# Altium schematic symbol library Converter_DCDC.SchLib: 658 symbols (part 5 of 7)
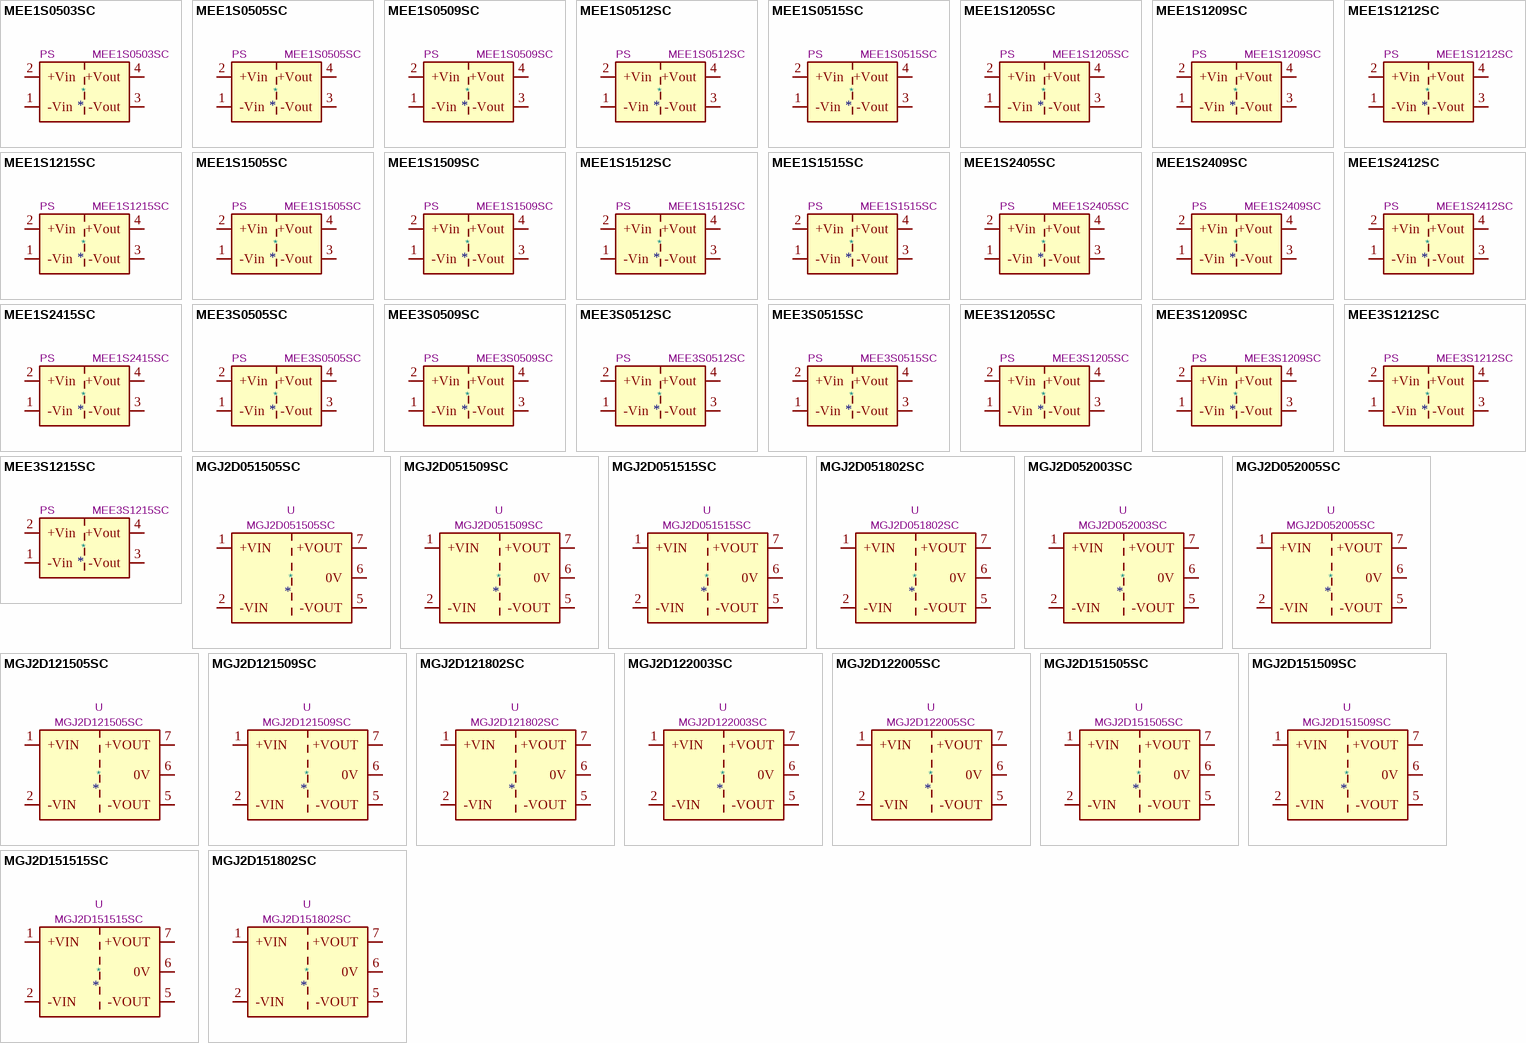
[diagram p20: symbols MEE1S0503SC to MGJ2D151802SC]

## MGJ2D121509SC
designator *  value MGJ2D121509SC  Reference: U
ki_keywords: DC/DC converter; ki_description: 5.2kVDC Isolated 2W Gate Drive, 12V Vin, +15V/-8.7V Vout; ki_fp_filters: Converter*DCDC*Murata*MGJ2DxxxxxxSC*; Footprint: Converter_DCDC:Converter_DCDC_Murata_MGJ2DxxxxxxSC_THT; Datasheet: https://power.murata.com/pub/data/power/ncl/kdc_mgj2.pdf
pins: 1 +VIN, 2 -VIN, 5 -VOUT, 6 0V, 7 +VOUT

## MGJ2D121802SC
designator *  value MGJ2D121802SC  Reference: U
ki_keywords: DC/DC converter; ki_description: 5.2kVDC Isolated 2W Gate Drive, 12V Vin, +18V/-2.5V Vout; ki_fp_filters: Converter*DCDC*Murata*MGJ2DxxxxxxSC*; Footprint: Converter_DCDC:Converter_DCDC_Murata_MGJ2DxxxxxxSC_THT; Datasheet: https://power.murata.com/pub/data/power/ncl/kdc_mgj2.pdf
pins: 1 +VIN, 2 -VIN, 5 -VOUT, 6 0V, 7 +VOUT

## MGJ2D122003SC
designator *  value MGJ2D122003SC  Reference: U
ki_keywords: DC/DC converter; ki_description: 5.2kVDC Isolated 2W Gate Drive, 12V Vin, +18V/-3.5V Vout; ki_fp_filters: Converter*DCDC*Murata*MGJ2DxxxxxxSC*; Footprint: Converter_DCDC:Converter_DCDC_Murata_MGJ2DxxxxxxSC_THT; Datasheet: https://power.murata.com/pub/data/power/ncl/kdc_mgj2.pdf
pins: 1 +VIN, 2 -VIN, 5 -VOUT, 6 0V, 7 +VOUT

## MGJ2D122005SC
designator *  value MGJ2D122005SC  Reference: U
ki_keywords: DC/DC converter; ki_description: 5.2kVDC Isolated 2W Gate Drive, 12V Vin, +20V/-5V Vout; ki_fp_filters: Converter*DCDC*Murata*MGJ2DxxxxxxSC*; Footprint: Converter_DCDC:Converter_DCDC_Murata_MGJ2DxxxxxxSC_THT; Datasheet: https://power.murata.com/pub/data/power/ncl/kdc_mgj2.pdf
pins: 1 +VIN, 2 -VIN, 5 -VOUT, 6 0V, 7 +VOUT

## MGJ2D151505SC
designator *  value MGJ2D151505SC  Reference: U
ki_keywords: DC/DC converter; ki_description: 5.2kVDC Isolated 2W Gate Drive, 15V Vin, +15V/-5V Vout; ki_fp_filters: Converter*DCDC*Murata*MGJ2DxxxxxxSC*; Footprint: Converter_DCDC:Converter_DCDC_Murata_MGJ2DxxxxxxSC_THT; Datasheet: https://power.murata.com/pub/data/power/ncl/kdc_mgj2.pdf
pins: 1 +VIN, 2 -VIN, 5 -VOUT, 6 0V, 7 +VOUT

## MGJ2D151509SC
designator *  value MGJ2D151509SC  Reference: U
ki_keywords: DC/DC converter; ki_description: 5.2kVDC Isolated 2W Gate Drive, 15V Vin, +15V/-8.7V Vout; ki_fp_filters: Converter*DCDC*Murata*MGJ2DxxxxxxSC*; Footprint: Converter_DCDC:Converter_DCDC_Murata_MGJ2DxxxxxxSC_THT; Datasheet: https://power.murata.com/pub/data/power/ncl/kdc_mgj2.pdf
pins: 1 +VIN, 2 -VIN, 5 -VOUT, 6 0V, 7 +VOUT

## MGJ2D151515SC
designator *  value MGJ2D151515SC  Reference: U
ki_keywords: DC/DC converter; ki_description: 5.2kVDC Isolated 2W Gate Drive, 15V Vin, +15V/-15V Vout; ki_fp_filters: Converter*DCDC*Murata*MGJ2DxxxxxxSC*; Footprint: Converter_DCDC:Converter_DCDC_Murata_MGJ2DxxxxxxSC_THT; Datasheet: https://power.murata.com/pub/data/power/ncl/kdc_mgj2.pdf
pins: 1 +VIN, 2 -VIN, 5 -VOUT, 6 0V, 7 +VOUT

## MGJ2D151802SC
designator *  value MGJ2D151802SC  Reference: U
ki_keywords: DC/DC converter; ki_description: 5.2kVDC Isolated 2W Gate Drive, 15V Vin, +18V/-2.5V Vout; ki_fp_filters: Converter*DCDC*Murata*MGJ2DxxxxxxSC*; Footprint: Converter_DCDC:Converter_DCDC_Murata_MGJ2DxxxxxxSC_THT; Datasheet: https://power.murata.com/pub/data/power/ncl/kdc_mgj2.pdf
pins: 1 +VIN, 2 -VIN, 5 -VOUT, 6 0V, 7 +VOUT

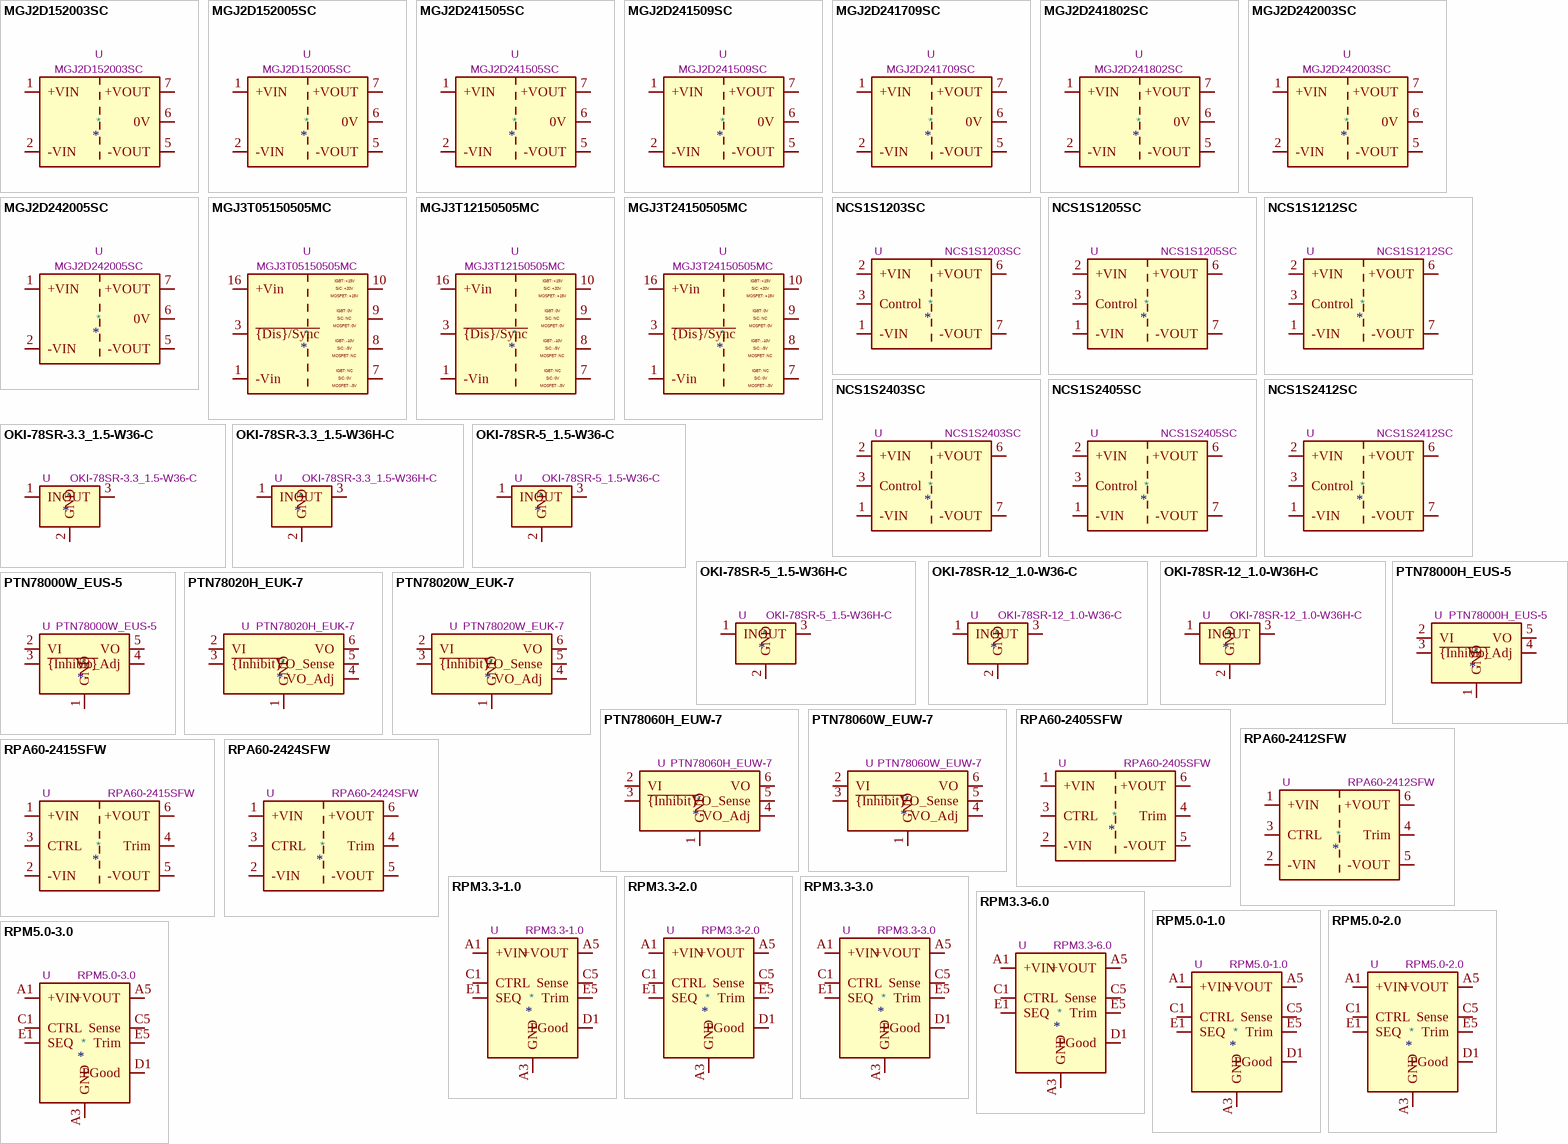
[diagram p11: symbols MGJ2D152003SC to RPM5.0-3.0]

## MGJ2D152003SC
designator *  value MGJ2D152003SC  Reference: U
ki_keywords: DC/DC converter; ki_description: 5.2kVDC Isolated 2W Gate Drive, 15V Vin, +20V/-3.5V Vout; ki_fp_filters: Converter*DCDC*Murata*MGJ2DxxxxxxSC*; Footprint: Converter_DCDC:Converter_DCDC_Murata_MGJ2DxxxxxxSC_THT; Datasheet: https://power.murata.com/pub/data/power/ncl/kdc_mgj2.pdf
pins: 1 +VIN, 2 -VIN, 5 -VOUT, 6 0V, 7 +VOUT

## MGJ2D152005SC
designator *  value MGJ2D152005SC  Reference: U
ki_keywords: DC/DC converter; ki_description: 5.2kVDC Isolated 2W Gate Drive, 15V Vin, +20V/-5V Vout; ki_fp_filters: Converter*DCDC*Murata*MGJ2DxxxxxxSC*; Footprint: Converter_DCDC:Converter_DCDC_Murata_MGJ2DxxxxxxSC_THT; Datasheet: https://power.murata.com/pub/data/power/ncl/kdc_mgj2.pdf
pins: 1 +VIN, 2 -VIN, 5 -VOUT, 6 0V, 7 +VOUT

## MGJ2D241505SC
designator *  value MGJ2D241505SC  Reference: U
ki_keywords: DC/DC converter; ki_description: 5.2kVDC Isolated 2W Gate Drive, 24V Vin, +15V/-5V Vout; ki_fp_filters: Converter*DCDC*Murata*MGJ2DxxxxxxSC*; Footprint: Converter_DCDC:Converter_DCDC_Murata_MGJ2DxxxxxxSC_THT; Datasheet: https://power.murata.com/pub/data/power/ncl/kdc_mgj2.pdf
pins: 1 +VIN, 2 -VIN, 5 -VOUT, 6 0V, 7 +VOUT

## MGJ2D241509SC
designator *  value MGJ2D241509SC  Reference: U
ki_keywords: DC/DC converter; ki_description: 5.2kVDC Isolated 2W Gate Drive, 24V Vin, +15V/-8.7V Vout; ki_fp_filters: Converter*DCDC*Murata*MGJ2DxxxxxxSC*; Footprint: Converter_DCDC:Converter_DCDC_Murata_MGJ2DxxxxxxSC_THT; Datasheet: https://power.murata.com/pub/data/power/ncl/kdc_mgj2.pdf
pins: 1 +VIN, 2 -VIN, 5 -VOUT, 6 0V, 7 +VOUT

## MGJ2D241709SC
designator *  value MGJ2D241709SC  Reference: U
ki_keywords: DC/DC converter; ki_description: 5.2kVDC Isolated 2W Gate Drive, 24V Vin, +17V/-9V Vout; ki_fp_filters: Converter*DCDC*Murata*MGJ2DxxxxxxSC*; Footprint: Converter_DCDC:Converter_DCDC_Murata_MGJ2DxxxxxxSC_THT; Datasheet: https://power.murata.com/pub/data/power/ncl/kdc_mgj2.pdf
pins: 1 +VIN, 2 -VIN, 5 -VOUT, 6 0V, 7 +VOUT

## MGJ2D241802SC
designator *  value MGJ2D241802SC  Reference: U
ki_keywords: DC/DC converter; ki_description: 5.2kVDC Isolated 2W Gate Drive, 24V Vin, +18V/-2.5V Vout; ki_fp_filters: Converter*DCDC*Murata*MGJ2DxxxxxxSC*; Footprint: Converter_DCDC:Converter_DCDC_Murata_MGJ2DxxxxxxSC_THT; Datasheet: https://power.murata.com/pub/data/power/ncl/kdc_mgj2.pdf
pins: 1 +VIN, 2 -VIN, 5 -VOUT, 6 0V, 7 +VOUT

## MGJ2D242003SC
designator *  value MGJ2D242003SC  Reference: U
ki_keywords: DC/DC converter; ki_description: 5.2kVDC Isolated 2W Gate Drive, 24V Vin, +20V/-3.5V Vout; ki_fp_filters: Converter*DCDC*Murata*MGJ2DxxxxxxSC*; Footprint: Converter_DCDC:Converter_DCDC_Murata_MGJ2DxxxxxxSC_THT; Datasheet: https://power.murata.com/pub/data/power/ncl/kdc_mgj2.pdf
pins: 1 +VIN, 2 -VIN, 5 -VOUT, 6 0V, 7 +VOUT

## MGJ2D242005SC
designator *  value MGJ2D242005SC  Reference: U
ki_keywords: DC/DC converter; ki_description: 5.2kVDC Isolated 2W Gate Drive, 24V Vin, +20V/-5V Vout; ki_fp_filters: Converter*DCDC*Murata*MGJ2DxxxxxxSC*; Footprint: Converter_DCDC:Converter_DCDC_Murata_MGJ2DxxxxxxSC_THT; Datasheet: https://power.murata.com/pub/data/power/ncl/kdc_mgj2.pdf
pins: 1 +VIN, 2 -VIN, 5 -VOUT, 6 0V, 7 +VOUT

## MGJ3T05150505MC
designator *  value MGJ3T05150505MC  Reference: U
ki_keywords: DC/DC converter; ki_description: 5.2kVDC Isolated 3W Gate Drive, 4.5-9V Vin, +15V/-5V or +15V/-10V or +20V/-5V Vout; ki_fp_filters: Converter*DCDC*Murata*MGJ3*; Footprint: Converter_DCDC:Converter_DCDC_Murata_MGJ3; Datasheet: https://power.murata.com/datasheet?/data/power/ncl/kdc_mgj3.pdf
pins: 1 -Vin, 3 ~{{Dis}/Sync}, 7, 8, 9, 10, 16 +Vin
text: IGBT: +15V; SiC: +20V; MOSFET: +15V; IGBT: 0V; SiC: NC; MOSFET: 0V; IGBT: -10V; SiC: -5V; MOSFET: NC; IGBT: NC; SiC: 0V; MOSFET: -5V

## MGJ3T12150505MC
designator *  value MGJ3T12150505MC  Reference: U
ki_keywords: DC/DC converter; ki_description: 5.2kVDC Isolated 3W Gate Drive, 9-18V Vin, +15V/-5V or +15V/-10V or +20V/-5V Vout; ki_fp_filters: Converter*DCDC*Murata*MGJ3*; Footprint: Converter_DCDC:Converter_DCDC_Murata_MGJ3; Datasheet: https://power.murata.com/datasheet?/data/power/ncl/kdc_mgj3.pdf
pins: 1 -Vin, 3 ~{{Dis}/Sync}, 7, 8, 9, 10, 16 +Vin
text: IGBT: +15V; SiC: +20V; MOSFET: +15V; IGBT: 0V; SiC: NC; MOSFET: 0V; IGBT: -10V; SiC: -5V; MOSFET: NC; IGBT: NC; SiC: 0V; MOSFET: -5V

## MGJ3T24150505MC
designator *  value MGJ3T24150505MC  Reference: U
ki_keywords: DC/DC converter; ki_description: 5.2kVDC Isolated 3W Gate Drive, 18-36V Vin, +15V/-5V or +15V/-10V or +20V/-5V Vout; ki_fp_filters: Converter*DCDC*Murata*MGJ3*; Footprint: Converter_DCDC:Converter_DCDC_Murata_MGJ3; Datasheet: https://power.murata.com/datasheet?/data/power/ncl/kdc_mgj3.pdf
pins: 1 -Vin, 3 ~{{Dis}/Sync}, 7, 8, 9, 10, 16 +Vin
text: IGBT: +15V; SiC: +20V; MOSFET: +15V; IGBT: 0V; SiC: NC; MOSFET: 0V; IGBT: -10V; SiC: -5V; MOSFET: NC; IGBT: NC; SiC: 0V; MOSFET: -5V

## NCS1S1203SC
designator *  value NCS1S1203SC  Reference: U
ki_keywords: Murata isolated isolation dc-dc converter step-down; ki_description: Isolated 1W 4:1 input DC/DC converter module, 4.5-18V input voltage, 3.3V output voltage, SIP; ki_fp_filters: Converter*DCDC*Murata*NCS1SxxxxSC*; Footprint: Converter_DCDC:Converter_DCDC_Murata_NCS1SxxxxSC_THT; Datasheet: https://power.murata.com/data/power/ncl/kdc_ncs1.pdf
pins: 1 -VIN, 2 +VIN, 3 Control, 6 +VOUT, 7 -VOUT

## NCS1S1205SC
designator *  value NCS1S1205SC  Reference: U
ki_keywords: Murata isolated isolation dc-dc converter step-down; ki_description: Isolated 1W 4:1 input DC/DC converter module, 4.5-18V input voltage, 5.0V output voltage, SIP; ki_fp_filters: Converter*DCDC*Murata*NCS1SxxxxSC*; Footprint: Converter_DCDC:Converter_DCDC_Murata_NCS1SxxxxSC_THT; Datasheet: https://power.murata.com/data/power/ncl/kdc_ncs1.pdf
pins: 1 -VIN, 2 +VIN, 3 Control, 6 +VOUT, 7 -VOUT

## NCS1S1212SC
designator *  value NCS1S1212SC  Reference: U
ki_keywords: Murata isolated isolation dc-dc converter step-down; ki_description: Isolated 1W 4:1 input DC/DC converter module, 4.5-18V input voltage, 12.0V output voltage, SIP; ki_fp_filters: Converter*DCDC*Murata*NCS1SxxxxSC*; Footprint: Converter_DCDC:Converter_DCDC_Murata_NCS1SxxxxSC_THT; Datasheet: https://power.murata.com/data/power/ncl/kdc_ncs1.pdf
pins: 1 -VIN, 2 +VIN, 3 Control, 6 +VOUT, 7 -VOUT

## NCS1S2403SC
designator *  value NCS1S2403SC  Reference: U
ki_keywords: Murata isolated isolation dc-dc converter step-down; ki_description: Isolated 1W 4:1 input DC/DC converter module, 9-36V input voltage, 3.3V output voltage, SIP; ki_fp_filters: Converter*DCDC*Murata*NCS1SxxxxSC*; Footprint: Converter_DCDC:Converter_DCDC_Murata_NCS1SxxxxSC_THT; Datasheet: https://power.murata.com/data/power/ncl/kdc_ncs1.pdf
pins: 1 -VIN, 2 +VIN, 3 Control, 6 +VOUT, 7 -VOUT

## NCS1S2405SC
designator *  value NCS1S2405SC  Reference: U
ki_keywords: Murata isolated isolation dc-dc converter step-down; ki_description: Isolated 1W 4:1 input DC/DC converter module, 9-36V input voltage, 5.0V output voltage, SIP; ki_fp_filters: Converter*DCDC*Murata*NCS1SxxxxSC*; Footprint: Converter_DCDC:Converter_DCDC_Murata_NCS1SxxxxSC_THT; Datasheet: https://power.murata.com/data/power/ncl/kdc_ncs1.pdf
pins: 1 -VIN, 2 +VIN, 3 Control, 6 +VOUT, 7 -VOUT

## NCS1S2412SC
designator *  value NCS1S2412SC  Reference: U
ki_keywords: Murata isolated isolation dc-dc converter step-down; ki_description: Isolated 1W 4:1 input DC/DC converter module, 9-36V input voltage, 12.0V output voltage, SIP; ki_fp_filters: Converter*DCDC*Murata*NCS1SxxxxSC*; Footprint: Converter_DCDC:Converter_DCDC_Murata_NCS1SxxxxSC_THT; Datasheet: https://power.murata.com/data/power/ncl/kdc_ncs1.pdf
pins: 1 -VIN, 2 +VIN, 3 Control, 6 +VOUT, 7 -VOUT

## OKI-78SR-3.3_1.5-W36-C
designator *  value OKI-78SR-3.3_1.5-W36-C  Reference: U
ki_keywords: dc-dc murata Step-Down DC/DC-Regulator; ki_description: 1.5A Step-Down DC/DC-Regulator, 7-36V input, 3.3V fixed Output Voltage, LM78xx replacement, -40°C to +85°C, OKI-78SR_Vertical; ki_fp_filters: Converter*DCDC*Murata*OKI*78SR*Vertical*; Footprint: Converter_DCDC:Converter_DCDC_Murata_OKI-78SR_Vertical; Datasheet: https://power.murata.com/data/power/oki-78sr.pdf
pins: 1 IN, 2 GND, 3 OUT

## OKI-78SR-3.3_1.5-W36H-C
designator *  value OKI-78SR-3.3_1.5-W36H-C  Reference: U
ki_keywords: dc-dc murata Step-Down DC/DC-Regulator; ki_description: 1.5A Step-Down DC/DC-Regulator, 7-36V input, 3.3V fixed Output Voltage, LM78xx replacement, -40°C to +85°C, OKI-78SR_Horizontal; ki_fp_filters: Converter*DCDC*Murata*OKI*78SR*Horizontal*; Footprint: Converter_DCDC:Converter_DCDC_Murata_OKI-78SR_Horizontal; Datasheet: https://power.murata.com/data/power/oki-78sr.pdf
pins: 1 IN, 2 GND, 3 OUT

## OKI-78SR-5_1.5-W36-C
designator *  value OKI-78SR-5_1.5-W36-C  Reference: U
ki_keywords: dc-dc murata Step-Down DC/DC-Regulator; ki_description: 1.5A Step-Down DC/DC-Regulator, 7-36V input, 5V fixed Output Voltage, LM78xx replacement, -40°C to +85°C, OKI-78SR_Vertical; ki_fp_filters: Converter*DCDC*Murata*OKI*78SR*Vertical*; Footprint: Converter_DCDC:Converter_DCDC_Murata_OKI-78SR_Vertical; Datasheet: https://power.murata.com/data/power/oki-78sr.pdf
pins: 1 IN, 2 GND, 3 OUT

## OKI-78SR-5_1.5-W36H-C
designator *  value OKI-78SR-5_1.5-W36H-C  Reference: U
ki_keywords: dc-dc murata Step-Down DC/DC-Regulator; ki_description: 1.5A Step-Down DC/DC-Regulator, 7-36V input, 5V fixed Output Voltage, LM78xx replacement, -40°C to +85°C, OKI-78SR_Horizontal; ki_fp_filters: Converter*DCDC*Murata*OKI*78SR*Horizontal*; Footprint: Converter_DCDC:Converter_DCDC_Murata_OKI-78SR_Horizontal; Datasheet: https://power.murata.com/data/power/oki-78sr.pdf
pins: 1 IN, 2 GND, 3 OUT

## OKI-78SR-12_1.0-W36-C
designator *  value OKI-78SR-12_1.0-W36-C  Reference: U
ki_keywords: dc-dc murata Step-Down DC/DC-Regulator; ki_description: 1.0A Step-Down DC/DC-Regulator, 15-36V input, 12V fixed Output Voltage, LM78xx replacement, -40°C to +85°C, OKI-78SR_Vertical; ki_fp_filters: Converter*DCDC*Murata*OKI*78SR*Vertical*; Footprint: Converter_DCDC:Converter_DCDC_Murata_OKI-78SR_Vertical; Datasheet: https://power.murata.com/data/power/oki-78sr.pdf
pins: 1 IN, 2 GND, 3 OUT

## OKI-78SR-12_1.0-W36H-C
designator *  value OKI-78SR-12_1.0-W36H-C  Reference: U
ki_keywords: dc-dc murata Step-Down DC/DC-Regulator; ki_description: 1.0A Step-Down DC/DC-Regulator, 15-36V input, 12V fixed Output Voltage, LM78xx replacement, -40°C to +85°C, OKI-78SR_Horizontal; ki_fp_filters: Converter*DCDC*Murata*OKI*78SR*Horizontal*; Footprint: Converter_DCDC:Converter_DCDC_Murata_OKI-78SR_Horizontal; Datasheet: https://power.murata.com/data/power/oki-78sr.pdf
pins: 1 IN, 2 GND, 3 OUT

## PTN78000H_EUS-5
designator *  value PTN78000H_EUS-5  Reference: U
ki_keywords: texas dc-dc converter step down buck; ki_description: 1.5A non-isolated switching regulator power module, 7-36V input voltage, 11.85-22V output voltage, EUS-5; ki_fp_filters: Texas*EUS*R?PDSS?T5*; Footprint: Module:Texas_EUS_R-PDSS-T5_THT; Datasheet: https://www.ti.com/lit/ds/symlink/ptn78000w.pdf
pins: 1 GND, 2 VI, 3 ~{{Inhibit}}, 4 Vo_Adj, 5 VO

## PTN78000W_EUS-5
designator *  value PTN78000W_EUS-5  Reference: U
ki_keywords: texas dc-dc converter step down buck; ki_description: 1.5A non-isolated switching regulator power module, 7-36V input voltage, 2.5-12.6V output voltage, EUS-5; ki_fp_filters: Texas*EUS*R?PDSS?T5*; Footprint: Module:Texas_EUS_R-PDSS-T5_THT; Datasheet: https://www.ti.com/lit/ds/symlink/ptn78000w.pdf
pins: 1 GND, 2 VI, 3 ~{{Inhibit}}, 4 Vo_Adj, 5 VO

## PTN78020H_EUK-7
designator *  value PTN78020H_EUK-7  Reference: U
ki_keywords: texas dc-dc converter step down buck; ki_description: 6A non-isolated switching regulator power module, 7-36V input voltage, 11.85-22V output voltage, EUK-7; ki_fp_filters: Texas*EUK*R?PDSS?T7*; Footprint: Module:Texas_EUK_R-PDSS-T7_THT; Datasheet: https://www.ti.com/lit/ds/symlink/ptn78020w.pdf
pins: 1 GND, 2 VI, 3 ~{{Inhibit}}, 4 VO_Adj, 5 VO_Sense, 6 VO, 7 GND hidden

## PTN78020W_EUK-7
designator *  value PTN78020W_EUK-7  Reference: U
ki_keywords: texas dc-dc converter step down buck; ki_description: 6A non-isolated switching regulator power module, 7-36V input voltage, 2.5-12.6V output voltage, EUK-7; ki_fp_filters: Texas*EUK*R?PDSS?T7*; Footprint: Module:Texas_EUK_R-PDSS-T7_THT; Datasheet: https://www.ti.com/lit/ds/symlink/ptn78020w.pdf
pins: 1 GND, 2 VI, 3 ~{{Inhibit}}, 4 VO_Adj, 5 VO_Sense, 6 VO, 7 GND hidden

## PTN78060H_EUW-7
designator *  value PTN78060H_EUW-7  Reference: U
ki_keywords: texas dc-dc converter step down buck; ki_description: 3A non-isolated switching regulator power module, 7-36V input voltage, 11.85-22V output voltage, EUW-7; ki_fp_filters: Texas*EUW*R?PDSS?T7*; Footprint: Module:Texas_EUW_R-PDSS-T7_THT; Datasheet: https://www.ti.com/lit/ds/symlink/ptn78060w.pdf
pins: 1 GND, 2 VI, 3 ~{{Inhibit}}, 4 VO_Adj, 5 VO_Sense, 6 VO, 7 GND hidden

## PTN78060W_EUW-7
designator *  value PTN78060W_EUW-7  Reference: U
ki_keywords: texas dc-dc converter step down buck; ki_description: 3A non-isolated switching regulator power module, 7-36V input voltage, 2.5-12.6V output voltage, EUW-7; ki_fp_filters: Texas*EUW*R?PDSS?T7*; Footprint: Module:Texas_EUW_R-PDSS-T7_THT; Datasheet: https://www.ti.com/lit/ds/symlink/ptn78060w.pdf
pins: 1 GND, 2 VI, 3 ~{{Inhibit}}, 4 VO_Adj, 5 VO_Sense, 6 VO, 7 GND hidden

## RPA60-2405SFW
designator *  value RPA60-2405SFW  Reference: U
ki_keywords: isolated isolation dc-dc converter step-down; ki_description: Isolated 60W 4:1 input DC/DC converter module, 9-36V input voltage, 5V output voltage, DIP; ki_fp_filters: Converter*DCDC*RECOM*RPA60?xxxxSFW*; Footprint: Converter_DCDC:Converter_DCDC_RECOM_RPA60-xxxxSFW; Datasheet: https://recom-power.com/pdf/Powerline_DC-DC/RPA60-FW.pdf
pins: 1 +VIN, 2 -VIN, 3 CTRL, 4 Trim, 5 -VOUT, 6 +VOUT

## RPA60-2412SFW
designator *  value RPA60-2412SFW  Reference: U
ki_keywords: isolated isolation dc-dc converter step-down; ki_description: Isolated 60W 4:1 input DC/DC converter module, 9-36V input voltage, 12V output voltage, DIP; ki_fp_filters: Converter*DCDC*RECOM*RPA60?xxxxSFW*; Footprint: Converter_DCDC:Converter_DCDC_RECOM_RPA60-xxxxSFW; Datasheet: https://recom-power.com/pdf/Powerline_DC-DC/RPA60-FW.pdf
pins: 1 +VIN, 2 -VIN, 3 CTRL, 4 Trim, 5 -VOUT, 6 +VOUT

## RPA60-2415SFW
designator *  value RPA60-2415SFW  Reference: U
ki_keywords: isolated isolation dc-dc converter step-down; ki_description: Isolated 60W 4:1 input DC/DC converter module, 9-36V input voltage, 15V output voltage, DIP; ki_fp_filters: Converter*DCDC*RECOM*RPA60?xxxxSFW*; Footprint: Converter_DCDC:Converter_DCDC_RECOM_RPA60-xxxxSFW; Datasheet: https://recom-power.com/pdf/Powerline_DC-DC/RPA60-FW.pdf
pins: 1 +VIN, 2 -VIN, 3 CTRL, 4 Trim, 5 -VOUT, 6 +VOUT

## RPA60-2424SFW
designator *  value RPA60-2424SFW  Reference: U
ki_keywords: isolated isolation dc-dc converter step-down; ki_description: Isolated 60W 4:1 input DC/DC converter module, 9-36V input voltage, 24V output voltage, DIP; ki_fp_filters: Converter*DCDC*RECOM*RPA60?xxxxSFW*; Footprint: Converter_DCDC:Converter_DCDC_RECOM_RPA60-xxxxSFW; Datasheet: https://recom-power.com/pdf/Powerline_DC-DC/RPA60-FW.pdf
pins: 1 +VIN, 2 -VIN, 3 CTRL, 4 Trim, 5 -VOUT, 6 +VOUT

## RPM3.3-1.0
designator *  value RPM3.3-1.0  Reference: U
ki_keywords: Recom dc-dc converter; ki_description: 1A non-isolated switching regulator power module, 3-17V input voltage, 3.3V output voltage, DOSA; ki_fp_filters: Converter*DCDC*RECOM*RPM*; Footprint: Converter_DCDC:Converter_DCDC_RECOM_RPMx.x-x.0; Datasheet: https://www.recom-power.com/pdf/Innoline/RPM-1.0.pdf
pins: A1 +VIN, A2 +VIN hidden, A3 GND, A4 GND hidden, A5 +VOUT, B1 GND hidden, B2 GND hidden, B3 GND hidden, B4 GND hidden, B5 +VOUT hidden, C1 CTRL, C2 GND hidden, C3 GND hidden, C4 GND hidden, C5 Sense, D1 PGood, D2 GND hidden, D3 GND hidden, D4 GND hidden, D5 GND hidden, E1 SEQ, E2 NC hidden, E3 GND hidden, E4 GND hidden, E5 Trim

## RPM3.3-2.0
designator *  value RPM3.3-2.0  Reference: U
ki_keywords: Recom dc-dc converter; ki_description: 2A non-isolated switching regulator power module, 3-17V input voltage, 3.3V output voltage, DOSA; ki_fp_filters: Converter*DCDC*RECOM*RPM*; Footprint: Converter_DCDC:Converter_DCDC_RECOM_RPMx.x-x.0; Datasheet: https://www.recom-power.com/pdf/Innoline/RPM-2.0.pdf
pins: A1 +VIN, A2 +VIN hidden, A3 GND, A4 GND hidden, A5 +VOUT, B1 GND hidden, B2 GND hidden, B3 GND hidden, B4 GND hidden, B5 +VOUT hidden, C1 CTRL, C2 GND hidden, C3 GND hidden, C4 GND hidden, C5 Sense, D1 PGood, D2 GND hidden, D3 GND hidden, D4 GND hidden, D5 GND hidden, E1 SEQ, E2 NC hidden, E3 GND hidden, E4 GND hidden, E5 Trim

## RPM3.3-3.0
designator *  value RPM3.3-3.0  Reference: U
ki_keywords: Recom dc-dc converter; ki_description: 3A non-isolated switching regulator power module, 3-17V input voltage, 3.3V output voltage, DOSA; ki_fp_filters: Converter*DCDC*RECOM*RPM*; Footprint: Converter_DCDC:Converter_DCDC_RECOM_RPMx.x-x.0; Datasheet: https://www.recom-power.com/pdf/Innoline/RPM-3.0.pdf
pins: A1 +VIN, A2 +VIN hidden, A3 GND, A4 GND hidden, A5 +VOUT, B1 GND hidden, B2 GND hidden, B3 GND hidden, B4 GND hidden, B5 +VOUT hidden, C1 CTRL, C2 GND hidden, C3 GND hidden, C4 GND hidden, C5 Sense, D1 PGood, D2 GND hidden, D3 GND hidden, D4 GND hidden, D5 GND hidden, E1 SEQ, E2 NC hidden, E3 GND hidden, E4 GND hidden, E5 Trim

## RPM3.3-6.0
designator *  value RPM3.3-6.0  Reference: U
ki_keywords: Recom dc-dc converter; ki_description: 6A non-isolated switching regulator power module, 4-15V input voltage, 3.3V output voltage, DOSA; ki_fp_filters: Converter*DCDC*RECOM*RPM*; Footprint: Converter_DCDC:Converter_DCDC_RECOM_RPMx.x-x.0; Datasheet: https://www.recom-power.com/pdf/Innoline/RPM-6.0.pdf
pins: A1 +VIN, A2 +VIN hidden, A3 GND, A4 GND hidden, A5 +VOUT, B1 GND hidden, B2 GND hidden, B3 GND hidden, B4 GND hidden, B5 +VOUT hidden, C1 CTRL, C2 GND hidden, C3 GND hidden, C4 GND hidden, C5 Sense, D1 PGood, D2 GND hidden, D3 GND hidden, D4 GND hidden, D5 GND hidden, E1 SEQ, E2 NC hidden, E3 GND hidden, E4 GND hidden, E5 Trim

## RPM5.0-1.0
designator *  value RPM5.0-1.0  Reference: U
ki_keywords: Recom dc-dc converter; ki_description: 1A non-isolated switching regulator power module, 3-17V input voltage, 5.0V output voltage, DOSA; ki_fp_filters: Converter*DCDC*RECOM*RPM*; Footprint: Converter_DCDC:Converter_DCDC_RECOM_RPMx.x-x.0; Datasheet: https://www.recom-power.com/pdf/Innoline/RPM-1.0.pdf
pins: A1 +VIN, A2 +VIN hidden, A3 GND, A4 GND hidden, A5 +VOUT, B1 GND hidden, B2 GND hidden, B3 GND hidden, B4 GND hidden, B5 +VOUT hidden, C1 CTRL, C2 GND hidden, C3 GND hidden, C4 GND hidden, C5 Sense, D1 PGood, D2 GND hidden, D3 GND hidden, D4 GND hidden, D5 GND hidden, E1 SEQ, E2 NC hidden, E3 GND hidden, E4 GND hidden, E5 Trim

## RPM5.0-2.0
designator *  value RPM5.0-2.0  Reference: U
ki_keywords: Recom dc-dc converter; ki_description: 2A non-isolated switching regulator power module, 3-17V input voltage, 5.0V output voltage, DOSA; ki_fp_filters: Converter*DCDC*RECOM*RPM*; Footprint: Converter_DCDC:Converter_DCDC_RECOM_RPMx.x-x.0; Datasheet: https://www.recom-power.com/pdf/Innoline/RPM-2.0.pdf
pins: A1 +VIN, A2 +VIN hidden, A3 GND, A4 GND hidden, A5 +VOUT, B1 GND hidden, B2 GND hidden, B3 GND hidden, B4 GND hidden, B5 +VOUT hidden, C1 CTRL, C2 GND hidden, C3 GND hidden, C4 GND hidden, C5 Sense, D1 PGood, D2 GND hidden, D3 GND hidden, D4 GND hidden, D5 GND hidden, E1 SEQ, E2 NC hidden, E3 GND hidden, E4 GND hidden, E5 Trim

## RPM5.0-3.0
designator *  value RPM5.0-3.0  Reference: U
ki_keywords: Recom dc-dc converter; ki_description: 3A non-isolated switching regulator power module, 3-17V input voltage, 5.0V output voltage, DOSA; ki_fp_filters: Converter*DCDC*RECOM*RPM*; Footprint: Converter_DCDC:Converter_DCDC_RECOM_RPMx.x-x.0; Datasheet: https://www.recom-power.com/pdf/Innoline/RPM-3.0.pdf
pins: A1 +VIN, A2 +VIN hidden, A3 GND, A4 GND hidden, A5 +VOUT, B1 GND hidden, B2 GND hidden, B3 GND hidden, B4 GND hidden, B5 +VOUT hidden, C1 CTRL, C2 GND hidden, C3 GND hidden, C4 GND hidden, C5 Sense, D1 PGood, D2 GND hidden, D3 GND hidden, D4 GND hidden, D5 GND hidden, E1 SEQ, E2 NC hidden, E3 GND hidden, E4 GND hidden, E5 Trim

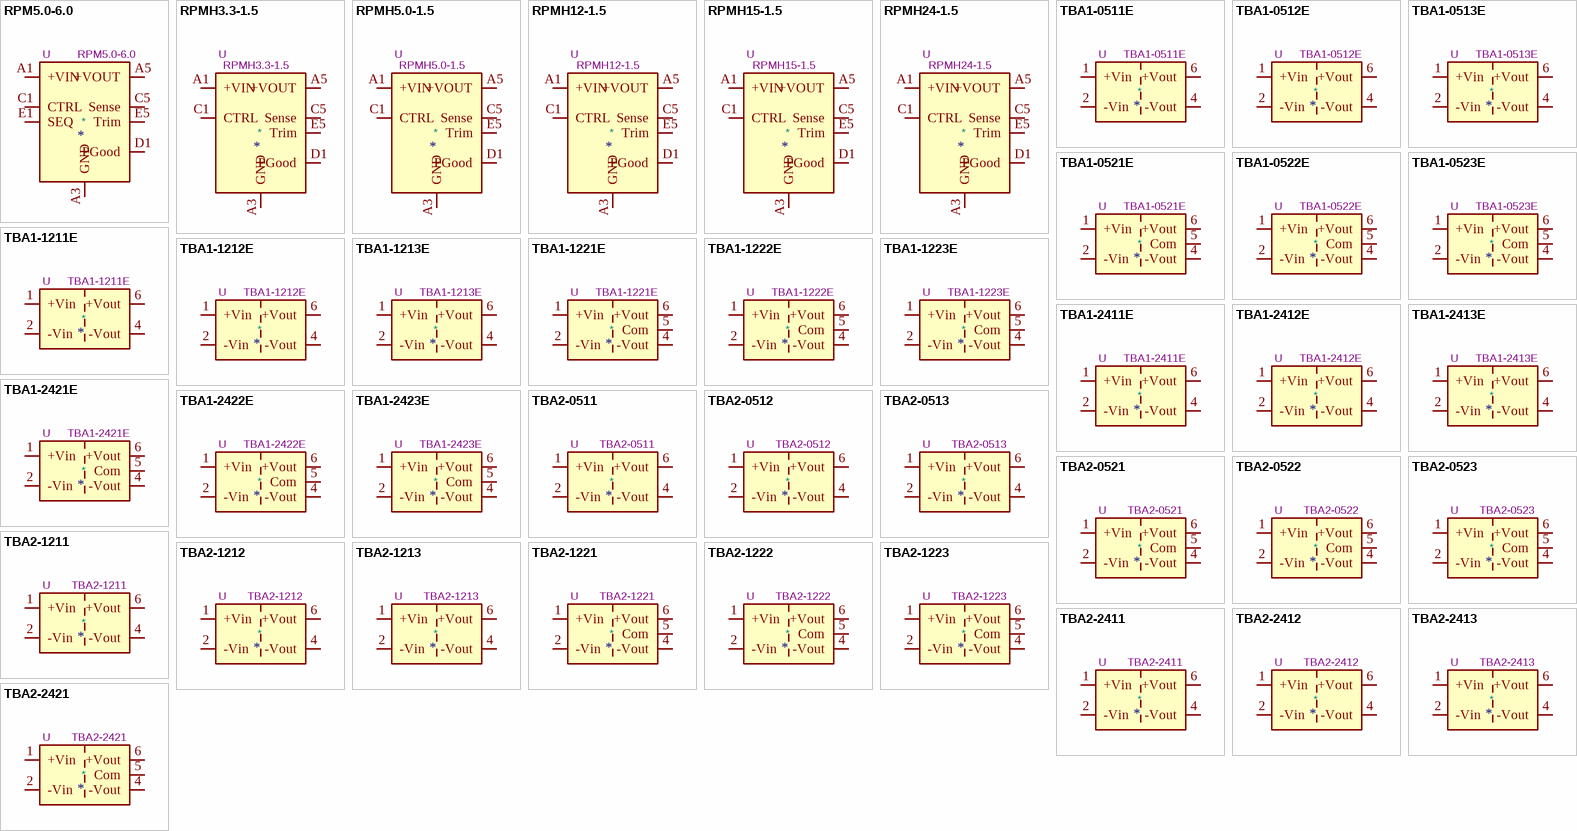
[diagram p12: symbols RPM5.0-6.0 to TBA2-2421]

## RPM5.0-6.0
designator *  value RPM5.0-6.0  Reference: U
ki_keywords: Recom dc-dc converter; ki_description: 6A non-isolated switching regulator power module, 4-15V input voltage, 5.0V output voltage, DOSA; ki_fp_filters: Converter*DCDC*RECOM*RPM*; Footprint: Converter_DCDC:Converter_DCDC_RECOM_RPMx.x-x.0; Datasheet: https://www.recom-power.com/pdf/Innoline/RPM-6.0.pdf
pins: A1 +VIN, A2 +VIN hidden, A3 GND, A4 GND hidden, A5 +VOUT, B1 GND hidden, B2 GND hidden, B3 GND hidden, B4 GND hidden, B5 +VOUT hidden, C1 CTRL, C2 GND hidden, C3 GND hidden, C4 GND hidden, C5 Sense, D1 PGood, D2 GND hidden, D3 GND hidden, D4 GND hidden, D5 GND hidden, E1 SEQ, E2 NC hidden, E3 GND hidden, E4 GND hidden, E5 Trim

## RPMH3.3-1.5
designator *  value RPMH3.3-1.5  Reference: U
ki_keywords: Recom DC-DC converter; ki_description: 1.5A non-isolated switching regulator power module, 5-60V input voltage, 3.3V output voltage; ki_fp_filters: Converter*DCDC*RECOM*RPM*; Footprint: Converter_DCDC:Converter_DCDC_RECOM_RPMx.x-x.0; Datasheet: https://recom-power.com/pdf/Innoline/RPMH-1.5.pdf
pins: A1 +VIN, A2 +VIN hidden, A3 GND, A4 GND hidden, A5 +VOUT, B1 GND hidden, B2 GND hidden, B3 GND hidden, B4 GND hidden, B5 +VOUT hidden, C1 CTRL, C2 GND hidden, C3 GND hidden, C4 GND hidden, C5 Sense, D1 PGood, D2 GND hidden, D3 GND hidden, D4 GND hidden, D5 GND hidden, E1 NC hidden, E2 NC hidden, E3 GND hidden, E4 GND hidden, E5 Trim

## RPMH5.0-1.5
designator *  value RPMH5.0-1.5  Reference: U
ki_keywords: Recom DC-DC converter; ki_description: 1.5A non-isolated switching regulator power module, 7-60V input voltage, 5V output voltage; ki_fp_filters: Converter*DCDC*RECOM*RPM*; Footprint: Converter_DCDC:Converter_DCDC_RECOM_RPMx.x-x.0; Datasheet: https://recom-power.com/pdf/Innoline/RPMH-1.5.pdf
pins: A1 +VIN, A2 +VIN hidden, A3 GND, A4 GND hidden, A5 +VOUT, B1 GND hidden, B2 GND hidden, B3 GND hidden, B4 GND hidden, B5 +VOUT hidden, C1 CTRL, C2 GND hidden, C3 GND hidden, C4 GND hidden, C5 Sense, D1 PGood, D2 GND hidden, D3 GND hidden, D4 GND hidden, D5 GND hidden, E1 NC hidden, E2 NC hidden, E3 GND hidden, E4 GND hidden, E5 Trim

## RPMH12-1.5
designator *  value RPMH12-1.5  Reference: U
ki_keywords: Recom DC-DC converter; ki_description: 1.5A non-isolated switching regulator power module, 14-60V input voltage, 12V output voltage; ki_fp_filters: Converter*DCDC*RECOM*RPM*; Footprint: Converter_DCDC:Converter_DCDC_RECOM_RPMx.x-x.0; Datasheet: https://recom-power.com/pdf/Innoline/RPMH-1.5.pdf
pins: A1 +VIN, A2 +VIN hidden, A3 GND, A4 GND hidden, A5 +VOUT, B1 GND hidden, B2 GND hidden, B3 GND hidden, B4 GND hidden, B5 +VOUT hidden, C1 CTRL, C2 GND hidden, C3 GND hidden, C4 GND hidden, C5 Sense, D1 PGood, D2 GND hidden, D3 GND hidden, D4 GND hidden, D5 GND hidden, E1 NC hidden, E2 NC hidden, E3 GND hidden, E4 GND hidden, E5 Trim

## RPMH15-1.5
designator *  value RPMH15-1.5  Reference: U
ki_keywords: Recom DC-DC converter; ki_description: 1.5A non-isolated switching regulator power module, 17-60V input voltage, 15V output voltage; ki_fp_filters: Converter*DCDC*RECOM*RPM*; Footprint: Converter_DCDC:Converter_DCDC_RECOM_RPMx.x-x.0; Datasheet: https://recom-power.com/pdf/Innoline/RPMH-1.5.pdf
pins: A1 +VIN, A2 +VIN hidden, A3 GND, A4 GND hidden, A5 +VOUT, B1 GND hidden, B2 GND hidden, B3 GND hidden, B4 GND hidden, B5 +VOUT hidden, C1 CTRL, C2 GND hidden, C3 GND hidden, C4 GND hidden, C5 Sense, D1 PGood, D2 GND hidden, D3 GND hidden, D4 GND hidden, D5 GND hidden, E1 NC hidden, E2 NC hidden, E3 GND hidden, E4 GND hidden, E5 Trim

## RPMH24-1.5
designator *  value RPMH24-1.5  Reference: U
ki_keywords: Recom DC-DC converter; ki_description: 1.5A non-isolated switching regulator power module, 26-60V input voltage, 24V output voltage; ki_fp_filters: Converter*DCDC*RECOM*RPM*; Footprint: Converter_DCDC:Converter_DCDC_RECOM_RPMx.x-x.0; Datasheet: https://recom-power.com/pdf/Innoline/RPMH-1.5.pdf
pins: A1 +VIN, A2 +VIN hidden, A3 GND, A4 GND hidden, A5 +VOUT, B1 GND hidden, B2 GND hidden, B3 GND hidden, B4 GND hidden, B5 +VOUT hidden, C1 CTRL, C2 GND hidden, C3 GND hidden, C4 GND hidden, C5 Sense, D1 PGood, D2 GND hidden, D3 GND hidden, D4 GND hidden, D5 GND hidden, E1 NC hidden, E2 NC hidden, E3 GND hidden, E4 GND hidden, E5 Trim

## TBA1-0511E
designator *  value TBA1-0511E  Reference: U
ki_keywords: Traco isolated isolation dc-dc converter not-regulated non-regulated single 1W; ki_description: 1W DC/DC converter unregulated, 4.5-5.5V input, 5V fixed output voltage, 200mA output, 1.5kVDC isolation, SIP-7; ki_fp_filters: Converter*DCDC*TRACO*TBA1*xxxxE*Single*; Footprint: Converter_DCDC:Converter_DCDC_TRACO_TBA1-xxxxE_Single_THT; Datasheet: https://www.tracopower.com/products/tba1e.pdf
pins: 1 +Vin, 2 -Vin, 4 -Vout, 6 +Vout

## TBA1-0512E
designator *  value TBA1-0512E  Reference: U
ki_keywords: Traco isolated isolation dc-dc converter not-regulated non-regulated single 1W; ki_description: 1W DC/DC converter unregulated, 4.5-5.5V input, 12V fixed output voltage, 84mA output, 1.5kVDC isolation, SIP-7; ki_fp_filters: Converter*DCDC*TRACO*TBA1*xxxxE*Single*; Footprint: Converter_DCDC:Converter_DCDC_TRACO_TBA1-xxxxE_Single_THT; Datasheet: https://www.tracopower.com/products/tba1e.pdf
pins: 1 +Vin, 2 -Vin, 4 -Vout, 6 +Vout

## TBA1-0513E
designator *  value TBA1-0513E  Reference: U
ki_keywords: Traco isolated isolation dc-dc converter not-regulated non-regulated single 1W; ki_description: 1W DC/DC converter unregulated, 4.5-5.5V input, 15V fixed output voltage, 66mA output, 1.5kVDC isolation, SIP-7; ki_fp_filters: Converter*DCDC*TRACO*TBA1*xxxxE*Single*; Footprint: Converter_DCDC:Converter_DCDC_TRACO_TBA1-xxxxE_Single_THT; Datasheet: https://www.tracopower.com/products/tba1e.pdf
pins: 1 +Vin, 2 -Vin, 4 -Vout, 6 +Vout

## TBA1-0521E
designator *  value TBA1-0521E  Reference: U
ki_keywords: Traco isolated isolation dc-dc DC/DC converter not-regulated non-regulated dual 1W; ki_description: 1W DC/DC converter unregulated, 4.5-5.5V input, ±5V fixed output voltage, 100mA each output, 1.5kVDC isolation, SIP-7; ki_fp_filters: Converter*DCDC*TRACO*TBA1*xxxxE*Dual*; Footprint: Converter_DCDC:Converter_DCDC_TRACO_TBA1-xxxxE_Dual_THT; Datasheet: https://www.tracopower.com/products/tba1e.pdf
pins: 1 +Vin, 2 -Vin, 4 -Vout, 5 Com, 6 +Vout

## TBA1-0522E
designator *  value TBA1-0522E  Reference: U
ki_keywords: Traco isolated isolation dc-dc DC/DC converter not-regulated non-regulated dual 1W; ki_description: 1W DC/DC converter unregulated, 4.5-5.5V input, ±12V fixed output voltage, 41mA each output, 1.5kVDC isolation, SIP-7; ki_fp_filters: Converter*DCDC*TRACO*TBA1*xxxxE*Dual*; Footprint: Converter_DCDC:Converter_DCDC_TRACO_TBA1-xxxxE_Dual_THT; Datasheet: https://www.tracopower.com/products/tba1e.pdf
pins: 1 +Vin, 2 -Vin, 4 -Vout, 5 Com, 6 +Vout

## TBA1-0523E
designator *  value TBA1-0523E  Reference: U
ki_keywords: Traco isolated isolation dc-dc DC/DC converter not-regulated non-regulated dual 1W; ki_description: 1W DC/DC converter unregulated, 4.5-5.5V input, ±15V fixed output voltage, 33mA each output, 1.5kVDC isolation, SIP-7; ki_fp_filters: Converter*DCDC*TRACO*TBA1*xxxxE*Dual*; Footprint: Converter_DCDC:Converter_DCDC_TRACO_TBA1-xxxxE_Dual_THT; Datasheet: https://www.tracopower.com/products/tba1e.pdf
pins: 1 +Vin, 2 -Vin, 4 -Vout, 5 Com, 6 +Vout

## TBA1-1211E
designator *  value TBA1-1211E  Reference: U
ki_keywords: Traco isolated isolation dc-dc converter not-regulated non-regulated single 1W; ki_description: 1W DC/DC converter unregulated, 10.8-13.2V input, 5V fixed output voltage, 200mA output, 1.5kVDC isolation, SIP-7; ki_fp_filters: Converter*DCDC*TRACO*TBA1*xxxxE*Single*; Footprint: Converter_DCDC:Converter_DCDC_TRACO_TBA1-xxxxE_Single_THT; Datasheet: https://www.tracopower.com/products/tba1e.pdf
pins: 1 +Vin, 2 -Vin, 4 -Vout, 6 +Vout

## TBA1-1212E
designator *  value TBA1-1212E  Reference: U
ki_keywords: Traco isolated isolation dc-dc converter not-regulated non-regulated single 1W; ki_description: 1W DC/DC converter unregulated, 10.8-13.2V input, 12V fixed output voltage, 84mA output, 1.5kVDC isolation, SIP-7; ki_fp_filters: Converter*DCDC*TRACO*TBA1*xxxxE*Single*; Footprint: Converter_DCDC:Converter_DCDC_TRACO_TBA1-xxxxE_Single_THT; Datasheet: https://www.tracopower.com/products/tba1e.pdf
pins: 1 +Vin, 2 -Vin, 4 -Vout, 6 +Vout

## TBA1-1213E
designator *  value TBA1-1213E  Reference: U
ki_keywords: Traco isolated isolation dc-dc converter not-regulated non-regulated single 1W; ki_description: 1W DC/DC converter unregulated, 10.8-13.2V input, 15V fixed output voltage, 66mA output, 1.5kVDC isolation, SIP-7; ki_fp_filters: Converter*DCDC*TRACO*TBA1*xxxxE*Single*; Footprint: Converter_DCDC:Converter_DCDC_TRACO_TBA1-xxxxE_Single_THT; Datasheet: https://www.tracopower.com/products/tba1e.pdf
pins: 1 +Vin, 2 -Vin, 4 -Vout, 6 +Vout

## TBA1-1221E
designator *  value TBA1-1221E  Reference: U
ki_keywords: Traco isolated isolation dc-dc DC/DC converter not-regulated non-regulated dual 1W; ki_description: 1W DC/DC converter unregulated, 10.8-13.2V input, ±5V fixed output voltage, 100mA each output, 1.5kVDC isolation, SIP-7; ki_fp_filters: Converter*DCDC*TRACO*TBA1*xxxxE*Dual*; Footprint: Converter_DCDC:Converter_DCDC_TRACO_TBA1-xxxxE_Dual_THT; Datasheet: https://www.tracopower.com/products/tba1e.pdf
pins: 1 +Vin, 2 -Vin, 4 -Vout, 5 Com, 6 +Vout

## TBA1-1222E
designator *  value TBA1-1222E  Reference: U
ki_keywords: Traco isolated isolation dc-dc DC/DC converter not-regulated non-regulated dual 1W; ki_description: 1W DC/DC converter unregulated, 10.8-13.2V input, ±12V fixed output voltage, 41mA each output, 1.5kVDC isolation, SIP-7; ki_fp_filters: Converter*DCDC*TRACO*TBA1*xxxxE*Dual*; Footprint: Converter_DCDC:Converter_DCDC_TRACO_TBA1-xxxxE_Dual_THT; Datasheet: https://www.tracopower.com/products/tba1e.pdf
pins: 1 +Vin, 2 -Vin, 4 -Vout, 5 Com, 6 +Vout

## TBA1-1223E
designator *  value TBA1-1223E  Reference: U
ki_keywords: Traco isolated isolation dc-dc DC/DC converter not-regulated non-regulated dual 1W; ki_description: 1W DC/DC converter unregulated, 10.8-13.2V input, ±15V fixed output voltage, 33mA each output, 1.5kVDC isolation, SIP-7; ki_fp_filters: Converter*DCDC*TRACO*TBA1*xxxxE*Dual*; Footprint: Converter_DCDC:Converter_DCDC_TRACO_TBA1-xxxxE_Dual_THT; Datasheet: https://www.tracopower.com/products/tba1e.pdf
pins: 1 +Vin, 2 -Vin, 4 -Vout, 5 Com, 6 +Vout

## TBA1-2411E
designator *  value TBA1-2411E  Reference: U
ki_keywords: Traco isolated isolation dc-dc converter not-regulated non-regulated single 1W; ki_description: 1W DC/DC converter unregulated, 21.6-26.4V input, 5V fixed output voltage, 200mA output, 1.5kVDC isolation, SIP-7; ki_fp_filters: Converter*DCDC*TRACO*TBA1*xxxxE*Single*; Footprint: Converter_DCDC:Converter_DCDC_TRACO_TBA1-xxxxE_Single_THT; Datasheet: https://www.tracopower.com/products/tba1e.pdf
pins: 1 +Vin, 2 -Vin, 4 -Vout, 6 +Vout

## TBA1-2412E
designator *  value TBA1-2412E  Reference: U
ki_keywords: Traco isolated isolation dc-dc converter not-regulated non-regulated single 1W; ki_description: 1W DC/DC converter unregulated, 21.6-26.4V input, 12V fixed output voltage, 84mA output, 1.5kVDC isolation, SIP-7; ki_fp_filters: Converter*DCDC*TRACO*TBA1*xxxxE*Single*; Footprint: Converter_DCDC:Converter_DCDC_TRACO_TBA1-xxxxE_Single_THT; Datasheet: https://www.tracopower.com/products/tba1e.pdf
pins: 1 +Vin, 2 -Vin, 4 -Vout, 6 +Vout

## TBA1-2413E
designator *  value TBA1-2413E  Reference: U
ki_keywords: Traco isolated isolation dc-dc converter not-regulated non-regulated single 1W; ki_description: 1W DC/DC converter unregulated, 21.6-26.4V input, 15V fixed output voltage, 66mA output, 1.5kVDC isolation, SIP-7; ki_fp_filters: Converter*DCDC*TRACO*TBA1*xxxxE*Single*; Footprint: Converter_DCDC:Converter_DCDC_TRACO_TBA1-xxxxE_Single_THT; Datasheet: https://www.tracopower.com/products/tba1e.pdf
pins: 1 +Vin, 2 -Vin, 4 -Vout, 6 +Vout

## TBA1-2421E
designator *  value TBA1-2421E  Reference: U
ki_keywords: Traco isolated isolation dc-dc DC/DC converter not-regulated non-regulated dual 1W; ki_description: 1W DC/DC converter unregulated, 21.6-26.4V input, ±5V fixed output voltage, 100mA each output, 1.5kVDC isolation, SIP-7; ki_fp_filters: Converter*DCDC*TRACO*TBA1*xxxxE*Dual*; Footprint: Converter_DCDC:Converter_DCDC_TRACO_TBA1-xxxxE_Dual_THT; Datasheet: https://www.tracopower.com/products/tba1e.pdf
pins: 1 +Vin, 2 -Vin, 4 -Vout, 5 Com, 6 +Vout

## TBA1-2422E
designator *  value TBA1-2422E  Reference: U
ki_keywords: Traco isolated isolation dc-dc DC/DC converter not-regulated non-regulated dual 1W; ki_description: 1W DC/DC converter unregulated, 21.6-26.4V input, ±12V fixed output voltage, 41mA each output, 1.5kVDC isolation, SIP-7; ki_fp_filters: Converter*DCDC*TRACO*TBA1*xxxxE*Dual*; Footprint: Converter_DCDC:Converter_DCDC_TRACO_TBA1-xxxxE_Dual_THT; Datasheet: https://www.tracopower.com/products/tba1e.pdf
pins: 1 +Vin, 2 -Vin, 4 -Vout, 5 Com, 6 +Vout

## TBA1-2423E
designator *  value TBA1-2423E  Reference: U
ki_keywords: Traco isolated isolation dc-dc DC/DC converter not-regulated non-regulated dual 1W; ki_description: 1W DC/DC converter unregulated, 21.6-26.4V input, ±15V fixed output voltage, 33mA each output, 1.5kVDC isolation, SIP-7; ki_fp_filters: Converter*DCDC*TRACO*TBA1*xxxxE*Dual*; Footprint: Converter_DCDC:Converter_DCDC_TRACO_TBA1-xxxxE_Dual_THT; Datasheet: https://www.tracopower.com/products/tba1e.pdf
pins: 1 +Vin, 2 -Vin, 4 -Vout, 5 Com, 6 +Vout

## TBA2-0511
designator *  value TBA2-0511  Reference: U
ki_keywords: Traco isolated isolation dc-dc converter not-regulated non-regulated single 2W; ki_description: 2W DC/DC converter unregulated, 4.5-5.5V input, 5V fixed output voltage, 400mA output, 1.5kVDC isolation, SIP-7; ki_fp_filters: Converter*DCDC*TRACO*TBA2*Single*; Footprint: Converter_DCDC:Converter_DCDC_TRACO_TBA2-xxxx_Single_THT; Datasheet: https://www.tracopower.com/products/tba2.pdf
pins: 1 +Vin, 2 -Vin, 4 -Vout, 6 +Vout

## TBA2-0512
designator *  value TBA2-0512  Reference: U
ki_keywords: Traco isolated isolation dc-dc converter not-regulated non-regulated single 2W; ki_description: 2W DC/DC converter unregulated, 4.5-5.5V input, 12V fixed output voltage, 165mA output, 1.5kVDC isolation, SIP-7; ki_fp_filters: Converter*DCDC*TRACO*TBA2*Single*; Footprint: Converter_DCDC:Converter_DCDC_TRACO_TBA2-xxxx_Single_THT; Datasheet: https://www.tracopower.com/products/tba2.pdf
pins: 1 +Vin, 2 -Vin, 4 -Vout, 6 +Vout

## TBA2-0513
designator *  value TBA2-0513  Reference: U
ki_keywords: Traco isolated isolation dc-dc converter not-regulated non-regulated single 2W; ki_description: 2W DC/DC converter unregulated, 4.5-5.5V input, 15V fixed output voltage, 130mA output, 1.5kVDC isolation, SIP-7; ki_fp_filters: Converter*DCDC*TRACO*TBA2*Single*; Footprint: Converter_DCDC:Converter_DCDC_TRACO_TBA2-xxxx_Single_THT; Datasheet: https://www.tracopower.com/products/tba2.pdf
pins: 1 +Vin, 2 -Vin, 4 -Vout, 6 +Vout

## TBA2-0521
designator *  value TBA2-0521  Reference: U
ki_keywords: Traco isolated isolation dc-dc DC/DC converter not-regulated non-regulated dual 2W; ki_description: 2W DC/DC converter unregulated, 4.5-5.5V input, ±5V fixed output voltage, 200mA each output, 1.5kVDC isolation, SIP-7; ki_fp_filters: Converter*DCDC*TRACO*TBA2*Dual*; Footprint: Converter_DCDC:Converter_DCDC_TRACO_TBA2-xxxx_Dual_THT; Datasheet: https://www.tracopower.com/products/tba2.pdf
pins: 1 +Vin, 2 -Vin, 4 -Vout, 5 Com, 6 +Vout

## TBA2-0522
designator *  value TBA2-0522  Reference: U
ki_keywords: Traco isolated isolation dc-dc DC/DC converter not-regulated non-regulated dual 2W; ki_description: 2W DC/DC converter unregulated, 4.5-5.5V input, ±12V fixed output voltage, 80mA each output, 1.5kVDC isolation, SIP-7; ki_fp_filters: Converter*DCDC*TRACO*TBA2*Dual*; Footprint: Converter_DCDC:Converter_DCDC_TRACO_TBA2-xxxx_Dual_THT; Datasheet: https://www.tracopower.com/products/tba2.pdf
pins: 1 +Vin, 2 -Vin, 4 -Vout, 5 Com, 6 +Vout

## TBA2-0523
designator *  value TBA2-0523  Reference: U
ki_keywords: Traco isolated isolation dc-dc DC/DC converter not-regulated non-regulated dual 2W; ki_description: 2W DC/DC converter unregulated, 4.5-5.5V input, ±15V fixed output voltage, 65mA each output, 1.5kVDC isolation, SIP-7; ki_fp_filters: Converter*DCDC*TRACO*TBA2*Dual*; Footprint: Converter_DCDC:Converter_DCDC_TRACO_TBA2-xxxx_Dual_THT; Datasheet: https://www.tracopower.com/products/tba2.pdf
pins: 1 +Vin, 2 -Vin, 4 -Vout, 5 Com, 6 +Vout

## TBA2-1211
designator *  value TBA2-1211  Reference: U
ki_keywords: Traco isolated isolation dc-dc converter not-regulated non-regulated single 1W; ki_description: 2W DC/DC converter unregulated, 10.8-13.2V input, 5V fixed output voltage, 400mA output, 1.5kVDC isolation, SIP-7; ki_fp_filters: Converter*DCDC*TRACO*TBA2*Single*; Footprint: Converter_DCDC:Converter_DCDC_TRACO_TBA2-xxxx_Single_THT; Datasheet: https://www.tracopower.com/products/tba2.pdf
pins: 1 +Vin, 2 -Vin, 4 -Vout, 6 +Vout

## TBA2-1212
designator *  value TBA2-1212  Reference: U
ki_keywords: Traco isolated isolation dc-dc converter not-regulated non-regulated single 2W; ki_description: 2W DC/DC converter unregulated, 10.8-13.2V input, 12V fixed output voltage, 165mA output, 1.5kVDC isolation, SIP-7; ki_fp_filters: Converter*DCDC*TRACO*TBA2*Single*; Footprint: Converter_DCDC:Converter_DCDC_TRACO_TBA2-xxxx_Single_THT; Datasheet: https://www.tracopower.com/products/tba2.pdf
pins: 1 +Vin, 2 -Vin, 4 -Vout, 6 +Vout

## TBA2-1213
designator *  value TBA2-1213  Reference: U
ki_keywords: Traco isolated isolation dc-dc converter not-regulated non-regulated single 2W; ki_description: 2W DC/DC converter unregulated, 10.8-13.2V input, 15V fixed output voltage, 130mA output, 1.5kVDC isolation, SIP-7; ki_fp_filters: Converter*DCDC*TRACO*TBA2*Single*; Footprint: Converter_DCDC:Converter_DCDC_TRACO_TBA2-xxxx_Single_THT; Datasheet: https://www.tracopower.com/products/tba2.pdf
pins: 1 +Vin, 2 -Vin, 4 -Vout, 6 +Vout

## TBA2-1221
designator *  value TBA2-1221  Reference: U
ki_keywords: Traco isolated isolation dc-dc DC/DC converter not-regulated non-regulated dual 2W; ki_description: 2W DC/DC converter unregulated, 10.8-13.2V input, ±5V fixed output voltage, 200mA each output, 1.5kVDC isolation, SIP-7; ki_fp_filters: Converter*DCDC*TRACO*TBA2*Dual*; Footprint: Converter_DCDC:Converter_DCDC_TRACO_TBA2-xxxx_Dual_THT; Datasheet: https://www.tracopower.com/products/tba2.pdf
pins: 1 +Vin, 2 -Vin, 4 -Vout, 5 Com, 6 +Vout

## TBA2-1222
designator *  value TBA2-1222  Reference: U
ki_keywords: Traco isolated isolation dc-dc DC/DC converter not-regulated non-regulated dual 2W; ki_description: 2W DC/DC converter unregulated, 10.8-13.2V input, ±12V fixed output voltage, 80mA each output, 1.5kVDC isolation, SIP-7; ki_fp_filters: Converter*DCDC*TRACO*TBA2*Dual*; Footprint: Converter_DCDC:Converter_DCDC_TRACO_TBA2-xxxx_Dual_THT; Datasheet: https://www.tracopower.com/products/tba2.pdf
pins: 1 +Vin, 2 -Vin, 4 -Vout, 5 Com, 6 +Vout

## TBA2-1223
designator *  value TBA2-1223  Reference: U
ki_keywords: Traco isolated isolation dc-dc DC/DC converter not-regulated non-regulated dual 2W; ki_description: 2W DC/DC converter unregulated, 10.8-13.2V input, ±15V fixed output voltage, 65mA each output, 1.5kVDC isolation, SIP-7; ki_fp_filters: Converter*DCDC*TRACO*TBA2*Dual*; Footprint: Converter_DCDC:Converter_DCDC_TRACO_TBA2-xxxx_Dual_THT; Datasheet: https://www.tracopower.com/products/tba2.pdf
pins: 1 +Vin, 2 -Vin, 4 -Vout, 5 Com, 6 +Vout

## TBA2-2411
designator *  value TBA2-2411  Reference: U
ki_keywords: Traco isolated isolation dc-dc converter not-regulated non-regulated single 2W; ki_description: 2W DC/DC converter unregulated, 21.6-26.4V input, 5V fixed output voltage, 400mA output, 1.5kVDC isolation, SIP-7; ki_fp_filters: Converter*DCDC*TRACO*TBA2*Single*; Footprint: Converter_DCDC:Converter_DCDC_TRACO_TBA2-xxxx_Single_THT; Datasheet: https://www.tracopower.com/products/tba2.pdf
pins: 1 +Vin, 2 -Vin, 4 -Vout, 6 +Vout

## TBA2-2412
designator *  value TBA2-2412  Reference: U
ki_keywords: Traco isolated isolation dc-dc converter not-regulated non-regulated single 2W; ki_description: 2W DC/DC converter unregulated, 21.6-26.4V input, 12V fixed output voltage, 165mA output, 1.5kVDC isolation, SIP-7; ki_fp_filters: Converter*DCDC*TRACO*TBA2*Single*; Footprint: Converter_DCDC:Converter_DCDC_TRACO_TBA2-xxxx_Single_THT; Datasheet: https://www.tracopower.com/products/tba2.pdf
pins: 1 +Vin, 2 -Vin, 4 -Vout, 6 +Vout

## TBA2-2413
designator *  value TBA2-2413  Reference: U
ki_keywords: Traco isolated isolation dc-dc converter not-regulated non-regulated single 2W; ki_description: 2W DC/DC converter unregulated, 21.6-26.4V input, 15V fixed output voltage, 130mA output, 1.5kVDC isolation, SIP-7; ki_fp_filters: Converter*DCDC*TRACO*TBA2*Single*; Footprint: Converter_DCDC:Converter_DCDC_TRACO_TBA2-xxxx_Single_THT; Datasheet: https://www.tracopower.com/products/tba2.pdf
pins: 1 +Vin, 2 -Vin, 4 -Vout, 6 +Vout

## TBA2-2421
designator *  value TBA2-2421  Reference: U
ki_keywords: Traco isolated isolation dc-dc DC/DC converter not-regulated non-regulated dual 2W; ki_description: 2W DC/DC converter unregulated, 21.6-26.4V input, ±5V fixed output voltage, 200mA each output, 1.5kVDC isolation, SIP-7; ki_fp_filters: Converter*DCDC*TRACO*TBA2*Dual*; Footprint: Converter_DCDC:Converter_DCDC_TRACO_TBA2-xxxx_Dual_THT; Datasheet: https://www.tracopower.com/products/tba2.pdf
pins: 1 +Vin, 2 -Vin, 4 -Vout, 5 Com, 6 +Vout

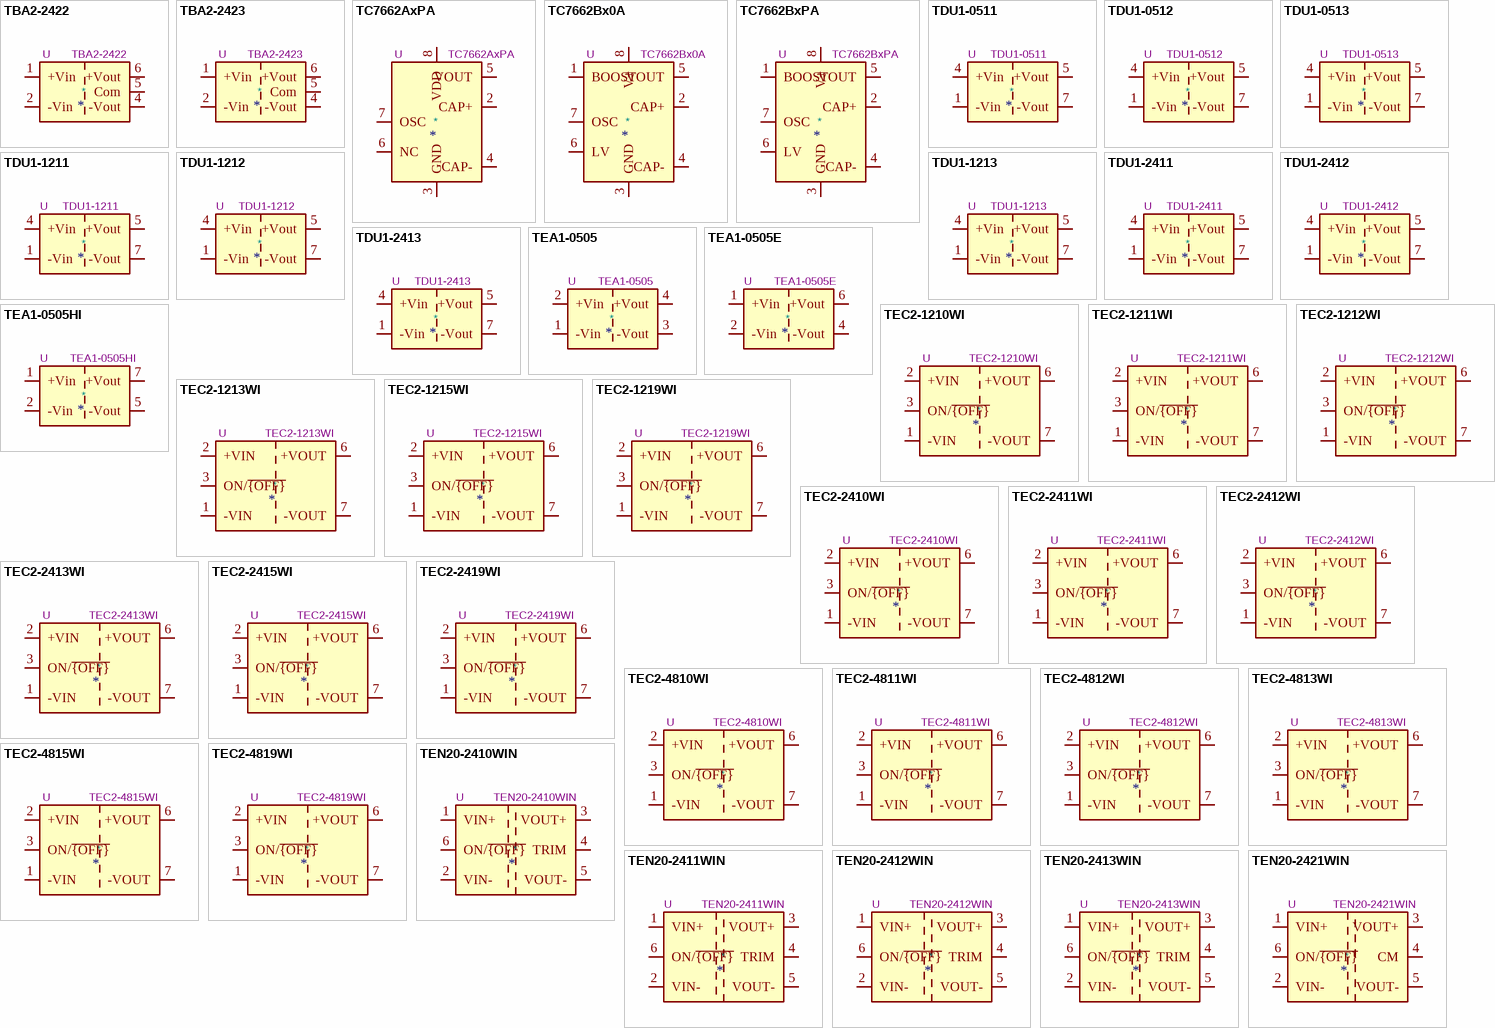
[diagram p13: symbols TBA2-2422 to TEN20-2421WIN]

## TBA2-2422
designator *  value TBA2-2422  Reference: U
ki_keywords: Traco isolated isolation dc-dc DC/DC converter not-regulated non-regulated dual 2W; ki_description: 2W DC/DC converter unregulated, 21.6-26.4V input, ±12V fixed output voltage, 80mA each output, 1.5kVDC isolation, SIP-7; ki_fp_filters: Converter*DCDC*TRACO*TBA2*Dual*; Footprint: Converter_DCDC:Converter_DCDC_TRACO_TBA2-xxxx_Dual_THT; Datasheet: https://www.tracopower.com/products/tba2.pdf
pins: 1 +Vin, 2 -Vin, 4 -Vout, 5 Com, 6 +Vout

## TBA2-2423
designator *  value TBA2-2423  Reference: U
ki_keywords: Traco isolated isolation dc-dc DC/DC converter not-regulated non-regulated dual 2W; ki_description: 2W DC/DC converter unregulated, 21.6-26.4V input, ±15V fixed output voltage, 65mA each output, 1.5kVDC isolation, SIP-7; ki_fp_filters: Converter*DCDC*TRACO*TBA2*Dual*; Footprint: Converter_DCDC:Converter_DCDC_TRACO_TBA2-xxxx_Dual_THT; Datasheet: https://www.tracopower.com/products/tba2.pdf
pins: 1 +Vin, 2 -Vin, 4 -Vout, 5 Com, 6 +Vout

## TC7662AxPA
designator *  value TC7662AxPA  Reference: U
ki_keywords: charge pump DC-to-DC converter; ki_description: Charge Pump DC-to-DC Converter, 3 - 18V, 40mA, DIP-8; ki_fp_filters: DIP*W7.62mm*; Footprint: Package_DIP:DIP-8_W7.62mm; Datasheet: http://ww1.microchip.com/downloads/en/DeviceDoc/21468B.pdf
pins: 1 NC hidden, 2 CAP+, 3 GND, 4 CAP-, 5 VOUT, 6 NC, 7 OSC, 8 VDD

## TC7662Bx0A
designator *  value TC7662Bx0A  Reference: U
ki_keywords: charge pump DC-to-DC converter; ki_description: Charge Pump DC-to-DC Converter, 1.5 - 15V, 100mA, SOIC-8; ki_fp_filters: SOIC*3.9x4.9mm*P1.27mm*; Footprint: Package_SO:SOIC-8_3.9x4.9mm_P1.27mm; Datasheet: http://ww1.microchip.com/downloads/en/DeviceDoc/21469a.pdf
pins: 1 BOOST, 2 CAP+, 3 GND, 4 CAP-, 5 VOUT, 6 LV, 7 OSC, 8 V+

## TC7662BxPA
designator *  value TC7662BxPA  Reference: U
ki_keywords: charge pump DC-to-DC converter; ki_description: Charge Pump DC-to-DC Converter, 1.5 - 15V, 100mA, DIP-8; ki_fp_filters: DIP*W7.62mm*; Footprint: Package_DIP:DIP-8_W7.62mm; Datasheet: http://ww1.microchip.com/downloads/en/DeviceDoc/21469a.pdf
pins: 1 BOOST, 2 CAP+, 3 GND, 4 CAP-, 5 VOUT, 6 LV, 7 OSC, 8 V+

## TDU1-0511
designator *  value TDU1-0511  Reference: U
ki_keywords: Traco isolated isolation dc-dc converter not-regulated non-regulated single 1W; ki_description: 1W DC/DC converter unregulated, 4.5-5.5V input, 5V output voltage, 200mA output, 1.5kVDC isolation, DIP-8; ki_fp_filters: Converter*DCDC*TRACO*TDU1*THT*; Footprint: Converter_DCDC:Converter_DCDC_TRACO_TDU1-xxxx_THT; Datasheet: https://www.tracopower.com/products/tdu1.pdf
pins: 1 -Vin, 4 +Vin, 5 +Vout, 7 -Vout

## TDU1-0512
designator *  value TDU1-0512  Reference: U
ki_keywords: Traco isolated isolation dc-dc converter not-regulated non-regulated single 1W; ki_description: 1W DC/DC converter unregulated, 4.5-5.5V input, 12V output voltage, 84mA output, 1.5kVDC isolation, DIP-8; ki_fp_filters: Converter*DCDC*TRACO*TDU1*THT*; Footprint: Converter_DCDC:Converter_DCDC_TRACO_TDU1-xxxx_THT; Datasheet: https://www.tracopower.com/products/tdu1.pdf
pins: 1 -Vin, 4 +Vin, 5 +Vout, 7 -Vout

## TDU1-0513
designator *  value TDU1-0513  Reference: U
ki_keywords: Traco isolated isolation dc-dc converter not-regulated non-regulated single 1W; ki_description: 1W DC/DC converter unregulated, 4.5-5.5V input, 15V output voltage, 67mA output, 1.5kVDC isolation, DIP-8; ki_fp_filters: Converter*DCDC*TRACO*TDU1*THT*; Footprint: Converter_DCDC:Converter_DCDC_TRACO_TDU1-xxxx_THT; Datasheet: https://www.tracopower.com/products/tdu1.pdf
pins: 1 -Vin, 4 +Vin, 5 +Vout, 7 -Vout

## TDU1-1211
designator *  value TDU1-1211  Reference: U
ki_keywords: Traco isolated isolation dc-dc converter not-regulated non-regulated single 1W; ki_description: 1W DC/DC converter unregulated, 10.8-13.2V input, 5V output voltage, 200mA output, 1.5kVDC isolation, DIP-8; ki_fp_filters: Converter*DCDC*TRACO*TDU1*THT*; Footprint: Converter_DCDC:Converter_DCDC_TRACO_TDU1-xxxx_THT; Datasheet: https://www.tracopower.com/products/tdu1.pdf
pins: 1 -Vin, 4 +Vin, 5 +Vout, 7 -Vout

## TDU1-1212
designator *  value TDU1-1212  Reference: U
ki_keywords: Traco isolated isolation dc-dc converter not-regulated non-regulated single 1W; ki_description: 1W DC/DC converter unregulated, 10.8-13.2V input, 12V output voltage, 84mA output, 1.5kVDC isolation, DIP-8; ki_fp_filters: Converter*DCDC*TRACO*TDU1*THT*; Footprint: Converter_DCDC:Converter_DCDC_TRACO_TDU1-xxxx_THT; Datasheet: https://www.tracopower.com/products/tdu1.pdf
pins: 1 -Vin, 4 +Vin, 5 +Vout, 7 -Vout

## TDU1-1213
designator *  value TDU1-1213  Reference: U
ki_keywords: Traco isolated isolation dc-dc converter not-regulated non-regulated single 1W; ki_description: 1W DC/DC converter unregulated, 10.8-13.2V input, 12V output voltage, 84mA output, 1.5kVDC isolation, DIP-8; ki_fp_filters: Converter*DCDC*TRACO*TDU1*THT*; Footprint: Converter_DCDC:Converter_DCDC_TRACO_TDU1-xxxx_THT; Datasheet: https://www.tracopower.com/products/tdu1.pdf
pins: 1 -Vin, 4 +Vin, 5 +Vout, 7 -Vout